# EAGLE library part NRF24L01+ (library FPV-Auto)
nRF24L01+ Single Chip 2.4GHz Transceiver Links Datasheet <https://www.nordicsemi.com/eng/nordic/download_resource/8765/2/78942384/2726> Product website <https://www.nordicsemi.com/eng/Products/2.4GHz-RF/nRF24L01P/(language)/eng-GB>
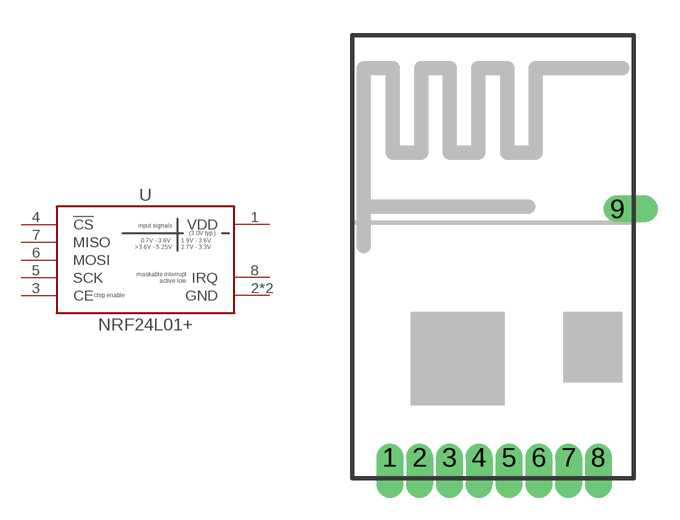
[diagram p2: symbol with the pads of NRF24L01+_MINI; footprint NRF24L01+_MINI]

Designator prefix U

## NRF24L01+_MINI  [NRF24L01+_MINI]
1  VDD  pwr
2  GND  pwr
3  CE  in
4  !CS  in
5  SCK  in
6  MOSI  in
7  MISO  out
8  IRQ  out
9  GND  pwr

## Footprint NRF24L01+_MINI (pad centres in mm)
drill 0.65 pad 1.016 offset: 1 -4.445,-10; 2 -3.175,-10; 3 -1.905,-10; 4 -0.635,-10; 5 0.635,-10; 6 1.905,-10; 7 3.175,-10; 8 4.445,-10; 9 5.245,0.6